# EAGLE library part MBT3904DW (library ads4)
Dual NPN transistor SOT-363 40V 200mA
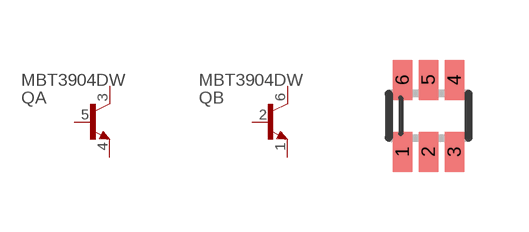
[diagram p52: symbol with the pads of SOT363; footprint SOT363]

Designator prefix Q; gates A=NPN B=NPN

## MBT3904DW1  [SOT363]
1  B:E  pas
2  B:B  pas
3  A:C  pas
4  A:E  pas
5  A:B  pas
6  B:C  pas

## MBT3904DW2  [SOT363]
1  B:B  pas
2  A:B  pas
3  A:C  pas
4  A:E  pas
5  B:E  pas
6  B:C  pas

## Footprint SOT363 (pad centres in mm)
SOT-363 6-pin package 2.0mm X 1.25mm, lead pitch 0.65mm Modified to have slightly narrower pads to satisfy 6mil design rules
smd 0.48 x 1: 1 -0.65,-0.65; 2 0,-0.65; 3 0.65,-0.65; 4 0.65,1.15; 5 0,1.15; 6 -0.65,1.15